# Altium integrated library 1751251.IntLib: 1 symbol
Pins are listed as number, name and electrical type; pins without a type are passive.

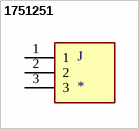
[diagram p0: symbol 1751251]

## 1751251
designator J
3 Position Wire to Board Terminal Block Horizontal with Board 0.138 _3.50mm_ Through Hole; MP: 1751251; MF: Phoenix Contact; SnapEDA_Link: https://www.snapeda.com/parts/1751251/Phoenix%20Contact/view-part/553210/?ref=snap; Value: *; Availability: Unavailable; Package: None; Price: None
footprint PHOENIX_1751251
pins: 1, 2, 3